# Altium footprint library U.FL-R-SMT-1.PcbLib: 1 footprints
Each footprint in its own frame and in the unit in brackets; x right, y up, seen from the top. Pads: shape width x height; smd on the part's side, far side on the other; paste and mask are expansions set on the pad; w line width, h text height; cw(c..) or ccw(c..) is an arc to the next point about the centre after c.
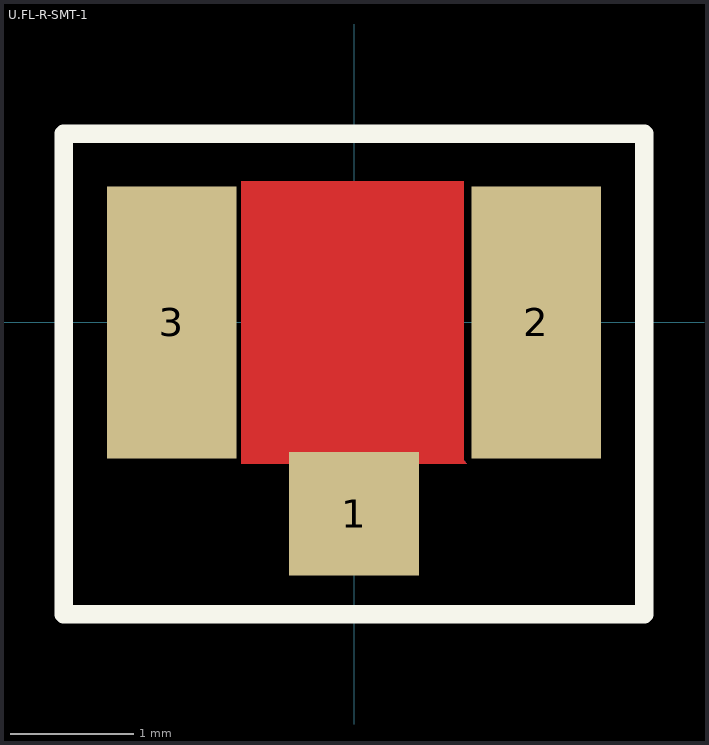
[diagram p0: the footprint, top view; thin cyan lines are the x and y axes]

## U.FL-R-SMT-1 [mm]
pads (3):
  rect 1.05x1 smd mask+0.051: 1(0,-1.55)
  rect 1.05x2.2 smd mask+0.051: 2(1.475,0) 3(-1.475,0)
Top Layer:
  pour cut-out: -0.914,1.143 0.889,1.143 0.889,-1.118 0.914,-1.143 -0.914,-1.143
Bottom Layer:
  pour cut-out: -0.914,1.143 0.889,1.143 0.889,-1.118 0.914,-1.143 -0.914,-1.143
Top Overlay:
  lines w0.15: -2.35,-2.362 -2.35,1.526 2.35,1.526 2.35,-2.362 -2.35,-2.362
3D body "User Library-20279-001.STEP": height 1.25, standoff -0.01, extent -1.5,-1.576 1.5,1.524